# Altium footprint library FG24X7R1E475KRT06.PcbLib: 1 footprints
Each footprint in its own frame and in the unit in brackets; x right, y up, seen from the top. Pads: shape width x height; smd on the part's side, far side on the other; paste and mask are expansions set on the pad; w line width, h text height; cw(c..) or ccw(c..) is an arc to the next point about the centre after c.
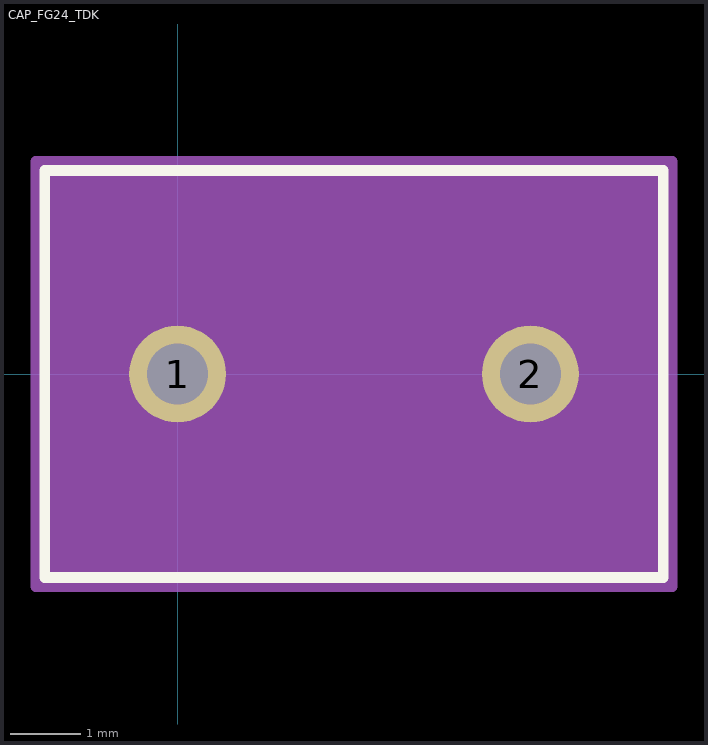
[diagram p0: the footprint, top view; thin cyan lines are the x and y axes]

## CAP_FG24_TDK [mil]
pads (2):
  round 54 hole 34 paste-27 mask+0: 1(0,0) 2(196.85,0)
Top Overlay:
  lines w6: -74.07,-113.5 270.93,-113.5 270.93,113.5 -74.07,113.5 -74.07,-113.5
  text ".Designator" at -39.07,-25 h50
Mechanical 13:
  circle w1: c-49.07,0 r0
  lines w1: -69.07,-108.5 265.93,-108.5 265.93,108.5 -69.07,108.5 -69.07,-108.5
  text ".Designator" at -39.07,-25 h50
Mechanical 15:
  region: 275.93,-118.5 -79.07,-118.5 -79.07,118.5 275.93,118.5
  lines w6: -79.07,-118.5 -79.07,118.5 275.93,118.5 275.93,-118.5 -79.07,-118.5
3D body "CAP_FG24_TDK.step": height 432.99, standoff -172.01, extent -69.06,-108.5 265.94,108.5